# Altium footprint library SM_SO-08.PcbLib: 1 footprints
Each footprint in its own frame and in the unit in brackets; x right, y up, seen from the top. Pads: shape width x height; smd on the part's side, far side on the other; paste and mask are expansions set on the pad; w line width, h text height; cw(c..) or ccw(c..) is an arc to the next point about the centre after c.
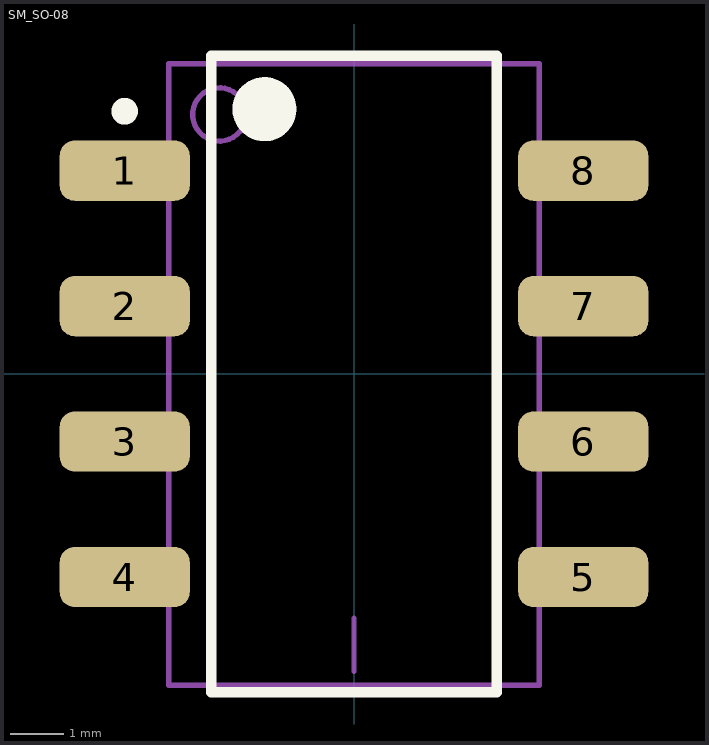
[diagram p0: the footprint, top view; thin cyan lines are the x and y axes]

## SM_SO-08 [mm] "8-pin DIP Gull-Wing SMT, 0.1\" pitch, 0.31\" width"
height 3.302
pads (8):
  rrect50% 2.44x1.13 smd: 1(-4.3,3.81) 2(-4.3,1.27) 3(-4.3,-1.27) 4(-4.3,-3.81) 5(4.3,-3.81) 6(4.3,-1.27) 7(4.3,1.27) 8(4.3,3.81)
Top Overlay:
  circle w0.6: c-1.68,4.965 r0.3
  circle w0.25: c-4.3,4.925 r0.125
  lines w0.2: -2.68,-5.969 2.68,-5.969 2.68,5.965 -2.68,5.965 -2.68,-5.969
Mechanical 13:
  circle w0.1: c-2.525,4.865 r0.5
  lines w0.1: -3.475,-5.842 3.475,-5.842 3.475,5.815 -3.475,5.815 -3.475,-5.842
Mechanical 15:
  lines w0.1: 0,-5.58 0,-4.58